# EAGLE library part 618009231121 (library Wurth-USB)
WR-DSUB 8.08mm Female Angled PCB Connector with Hex Screw 9 Pins=>Code : Con_I-O_DSUB_PCB_Female_w-screw_618009231121 <https://katalog.we-online.com/media/images/v2/o33082v209%20Family_WR-DSUB_6180xx231121.jpg> Details see: https://katalog.we-online.com/en/em/DSUB_FEMALE_ANGLED_PCB_CONNECTOR_W_HEX_SCREW_8_08MM_6180XX231121 Updated by Ella Wu 2019-03-20 2019 (C) Würth Elektronik
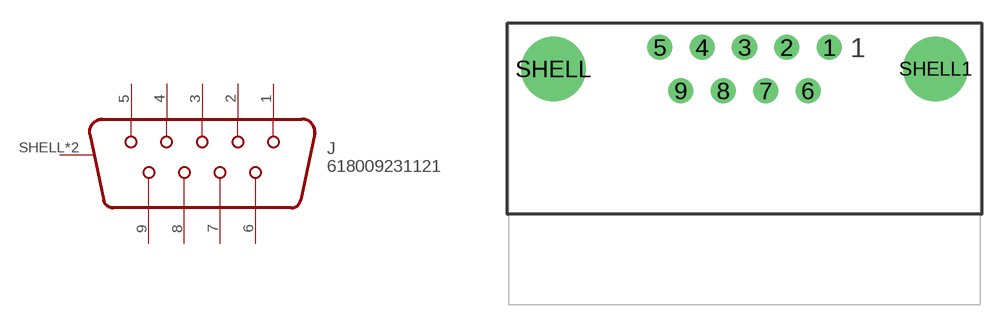
[diagram p32: symbol with the pads of 618009231121; footprint 618009231121]

Designator prefix J

## 618009231121 (WE-NUMBER: 618009231121)  [618009231121]
1  1
2  2
3  3
4  4
5  5
6  6
7  7
8  8
9  9
SHELL  SHIELD
SHELL1  SHIELD

## Footprint 618009231121 (pad centres in mm)
WR-DSUB 8.08mm Female Angled PCB Connector with Hex Screw, 9 Pins
drill 1.09: 1 5.54,1.42; 2 2.77,1.42; 3 0,1.42; 4 -2.77,1.42; 5 -5.54,1.42; 6 4.155,-1.42; 7 1.385,-1.42; 8 -1.385,-1.42; 9 -4.155,-1.42
drill 3.2: SHELL -12.5,0; SHELL1 12.5,0